# EAGLE library part TV_3_SOCKET_PUSHPULL_POWERED (library CardEdgePads)
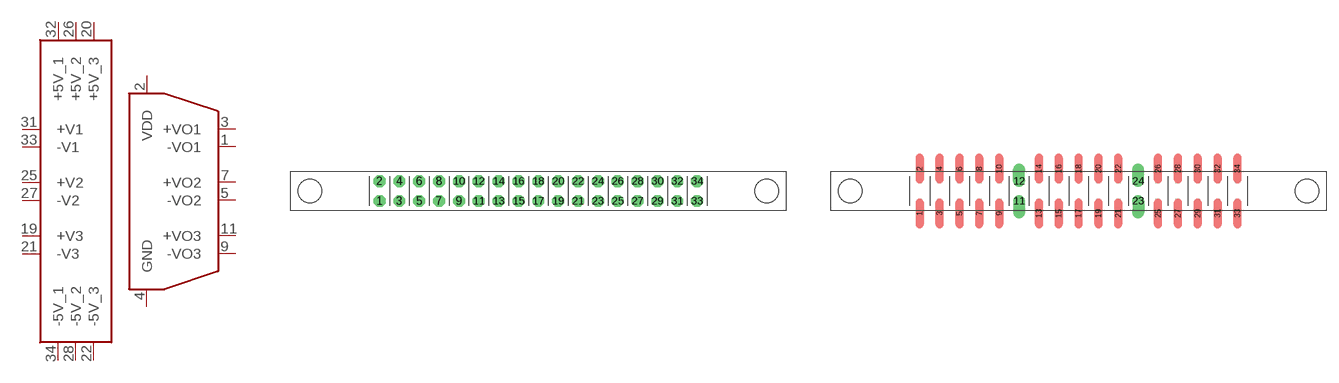
[diagram p9: symbol with the pads of 2X17_SOCKET; footprints 2X17_SOCKET, 2X17_SOCKET_SMD]

Designator prefix TV_3_PPP

## TV_3_SOCKET_PUSHPULL_POWERED'THROUGH_HOLE'  [2X17_SOCKET]
1  -VO1
2  VDD
3  +VO1
4  GND
5  -VO2
7  +VO2
9  -VO3
11  +VO3
19  +V3
20  +5V_3
21  -V3
22  -5V_3
25  +V2
26  +5V_2
27  -V2
28  -5V_2
31  +V1
32  +5V_1
33  -V1
34  -5V_1

## TV_3_SOCKET_PUSHPULL_POWEREDSMD  [2X17_SOCKET_SMD]
Pads as for 2X17_SOCKET

## Footprint 2X17_SOCKET (pad centres in mm)
drill 1.016 octagon: 1 -19.05,-1.27; 2 -19.05,1.27; 3 -16.51,-1.27; 4 -16.51,1.27; 5 -13.97,-1.27; 6 -13.97,1.27; 7 -11.43,-1.27; 8 -11.43,1.27; 9 -8.89,-1.27; 10 -8.89,1.27; 11 -6.35,-1.27; 12 -6.35,1.27; 13 -3.81,-1.27; 14 -3.81,1.27; 15 -1.27,-1.27; 16 -1.27,1.27; 17 1.27,-1.27; 18 1.27,1.27; 19 3.81,-1.27; 20 3.81,1.27; 21 6.35,-1.27; 22 6.35,1.27; 23 8.89,-1.27; 24 8.89,1.27; 25 11.43,-1.27; 26 11.43,1.27; 27 13.97,-1.27; 28 13.97,1.27; 29 16.51,-1.27; 30 16.51,1.27; 31 19.05,-1.27; 32 19.05,1.27; 33 21.59,-1.27; 34 21.59,1.27
hole 3 at -27.94,0
hole 3 at 30.48,0

## Footprint 2X17_SOCKET_SMD (pad centres in mm)
smd 1.016 x 3.81: 1 -20.32,-2.857; 2 -20.32,2.857; 3 -17.78,-2.857; 4 -17.78,2.857; 5 -15.24,-2.857; 6 -15.24,2.857; 7 -12.7,-2.857; 8 -12.7,2.857; 9 -10.16,-2.857; 10 -10.16,2.857; 13 -5.08,-2.857; 14 -5.08,2.857; 15 -2.54,-2.857; 16 -2.54,2.857; 17 0,-2.857; 18 0,2.857; 19 2.54,-2.857; 20 2.54,2.857; 21 5.08,-2.857; 22 5.08,2.857; 25 10.16,-2.857; 26 10.16,2.857; 27 12.7,-2.857; 28 12.7,2.857; 29 15.24,-2.857; 30 15.24,2.857; 31 17.78,-2.857; 32 17.78,2.857; 33 20.32,-2.857; 34 20.32,2.857
drill 1 pad 1.5 offset: 11 -7.62,-1.27; 12 -7.62,1.27; 23 7.62,-1.27; 24 7.62,1.27